# EAGLE library part D5S (library Ebersacher)
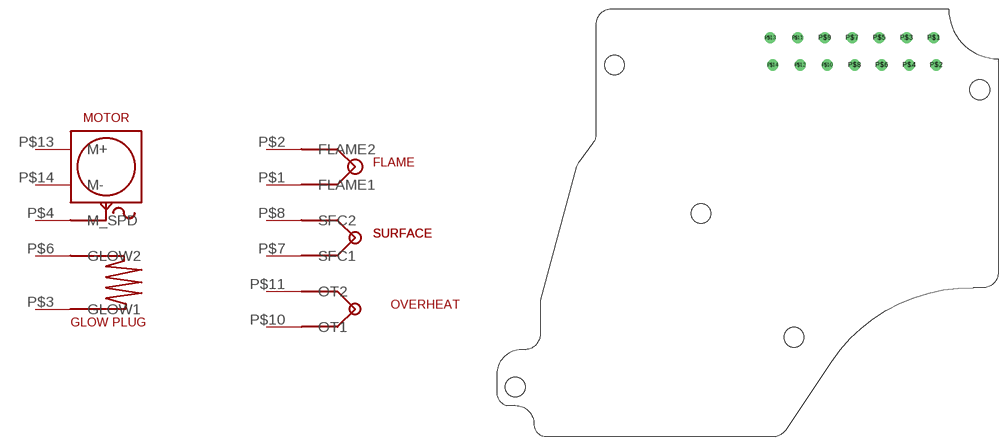
[diagram p0: symbol with the pads of PCB; footprint PCB]

Designator prefix -

## D5S  [PCB]
P$1  FLAME1
P$2  FLAME2
P$3  GLOW1
P$4  M_SPD
P$6  GLOW2
P$7  SFC1
P$8  SFC2
P$10  OT1
P$11  OT2
P$13  M+
P$14  M-

## Footprint PCB (pad centres in mm)
drill 1.2: P$1 67.6,56.4; P$2 68,52; P$3 63.2,56.4; P$4 63.6,52; P$5 58.8,56.4; P$6 59.2,52; P$7 54.4,56.4; P$8 54.8,52; P$9 50,56.4; P$10 50.4,52; P$11 45.6,56.4; P$12 46,52; P$13 41.2,56.4; P$14 41.6,52
hole 3.2 at 75,48
hole 3.2 at 45,8
hole 3.2 at 30,28
hole 3.2 at 16,52
hole 3.2 at 0,0